# Altium footprint library Tag105 Rev20.PcbLib: 25 footprints (part 2 of 2)
Each footprint in its own frame and in the unit in brackets; x right, y up, seen from the top. Pads: shape width x height; smd on the part's side, far side on the other; paste and mask are expansions set on the pad; w line width, h text height; cw(c..) or ccw(c..) is an arc to the next point about the centre after c.
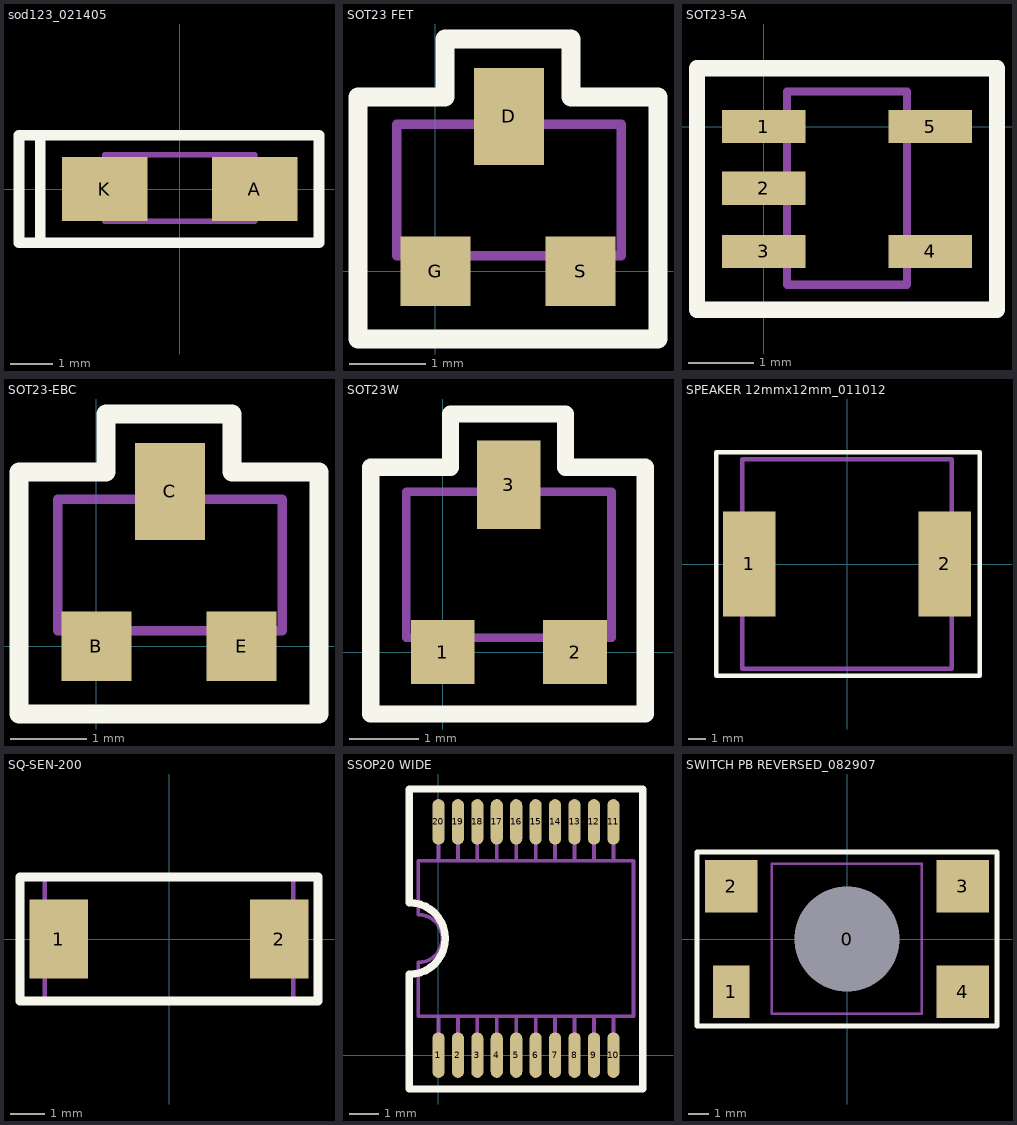
[diagram p1: the footprints below, top view; thin cyan lines are the x and y axes]

## sod123_021405 [mil]
pads (2):
  rect 80x60 smd: A(70,0) K(-70,0)
Top Overlay:
  lines w9.84: -130,-50 -130,50 ; -150,-50 40,-50 130,-50 130,50 40,50 -150,50 -150,-50
Mechanical 1:
  lines w4.92: -40,-30 -40,32 ; -70,-30 70,-30 70,32 -70,32 -70,-30
Mechanical 8:
  text ".Designator" at -20,50 h19.68

## SOT23 FET [mil]
pads (3):
  rect 36x50 smd: D(38,80)
  rect 36x36 smd: G(0,0) S(75,0)
Top Overlay:
  lines w9.84: -40,-35 -40,90 5,90 5,120 23,120 70,120 70,90 115,90 115,-35 -40,-35
Mechanical 1:
  lines w4.92: -10,8 -10,-8 10,-8 10,8 ; 30,76 30,94 46,94 46,76 ; 66,8 66,-8 84,-8 84,8 ; -20,8 -20,76 96,76 96,8 -20,8
Mechanical 8:
  text ".Designator" at 56,-17 h19.68

## SOT23-5A [mil]
pads (5):
  rect 50x20 smd: 1(0,0) 2(0,-37) 3(0,-75) 4(100,-75) 5(100,0)
Top Overlay:
  lines w9.84: -40,-110 -40,-75 -40,35 140,35 140,-110 -40,-110
Mechanical 1:
  lines w4.92: 14,-79 -8,-79 -8,-71 12,-71 14,-69 ; 14,-41 -8,-41 -8,-33 14,-33 ; 14,-3 -8,-3 -8,5 14,5 ; 86,-79 108,-79 108,-71 86,-71 ; 86,-3 108,-3 108,5 86,5 ; 14,-95 86,-95 86,21 14,21 14,-95
Mechanical 8:
  text ".Designator" at 106,-22 h19.68

## SOT23-EBC [mil]
pads (3):
  rect 36x36 smd: B(0,0) E(75,0)
  rect 36x50 smd: C(38,80)
Top Overlay:
  lines w9.84: -40,-35 -40,90 5,90 5,120 23,120 70,120 70,90 115,90 115,-35 -40,-35
Mechanical 1:
  lines w5: -10,8 -10,-8 10,-8 10,8 ; 30,76 30,94 46,94 46,76 ; 66,8 66,-8 84,-8 84,8 ; -20,8 -20,76 96,76 96,8 -20,8
Mechanical 8:
  text ".Designator" at -33,62 h19.68

## SOT23W [mil]
pads (3):
  rect 36x36 smd: 1(0,0) 2(74.8,0)
  rect 36x50 smd: 3(37.4,94.49)
Top Overlay:
  lines w9.84: -40.6,-35 -40.6,104.49 4.4,104.49 4.4,134.49 22.4,134.49 69.4,134.49 69.4,104.49 114.4,104.49 114.4,-35 -40.6,-35
Mechanical 1:
  lines w4.92: -10.6,8 -10.6,-8 9.4,-8 9.4,8 ; 29.4,90.49 29.4,108.49 45.4,108.49 45.4,90.49 ; 65.4,8 65.4,-8 83.4,-8 83.4,8 ; -20.6,8 -20.6,90.49 95.4,90.49 95.4,8 -20.6,8
Mechanical 8:
  text ".Designator" at 50,-15 h19.68

## SPEAKER 12mmx12mm_011012 [mm] "SMT"
height 3.14
pads (2):
  rect 3x6 smd: 1(-5.6,0) 2(5.6,0)
Top Overlay:
  lines w0.254: -7.5,-6.4 0,-6.4 7.6,-6.4 7.6,6.4 0,6.4 ; -7.5,6.4 0,6.4 ; -7.5,6.4 -7.5,-6.35 -7.5,6.4 ; -7.5,6.4 0,6.4 ; -7.5,6.4 0,6.4
Mechanical 1:
  lines w0.254: -6,-1 -6.65,-1 -6.65,1 -6,1 ; 0,6 -6,6 ; 6,1 6.65,1 6.65,-1 ; -6,6 6,6 6,-6 -6,-6 -6,6 ; 6.65,-1 6,-1 6.65,-1
Mechanical 8:
  text ".Designator" at 0.127,-4.572 h0.5

## SQ-SEN-200 [mm]
pads (2):
  rect 1.7x2.3 smd: 1(-3.2,0) 2(3.2,0)
Top Overlay:
  lines w0.254: -4.318,-1.8 -4.318,1.8 4.318,1.8 4.318,-1.8 -4.318,-1.8
Mechanical 1:
  lines w0.125: -3.6,-1.8 3.6,-1.8 3.6,1.8 -3.6,1.8 -3.6,-1.8
Mechanical 8:
  text ".Designator" at 1.448,0.686 h0.5

## SSOP20 WIDE [mil]
pads (20):
  oval 16x60 smd: 1(0,0) 2(25.59,0) 3(51.18,0) 4(76.77,0) 5(102.36,0) 6(127.95,0) 7(153.54,0) 8(179.13,0) 9(204.72,0) 10(230.31,0) 11(230.31,307.09) 12(204.72,307.09) 13(179.13,307.09) 14(153.54,307.09) 15(127.95,307.09) 16(102.36,307.09) 17(76.77,307.09) 18(51.18,307.09) 19(25.59,307.09) 20(0,307.09)
Top Overlay:
  lines w9.84: -38.39,106.3 -38.39,-44.61 268.7,-44.61 ; -38.39,200.79 -38.39,283.46 -38.39,350.39 268.7,350.39 268.7,271.65 268.7,-43.31
  lines w10: -38.39,106.3 ccw(c-38.39,153.54) -38.39,200.79
Mechanical 1:
  lines w4.92: 0,-7.87 0,51.18 ; 0,255.91 0,314.96 ; 25.59,-7.87 25.59,51.18 ; 25.59,255.91 25.59,314.96 ; 51.18,-7.87 51.18,51.18 ; 51.18,255.91 51.18,307 51.18,314.96 ; 76.77,-7.87 76.77,51.18 ; 76.77,255.91 76.77,314.96 ; 102.36,-7.87 102.36,51.18 ; 102.36,255.91 102.36,314.96 ; 127.95,-7.87 127.95,51.18 ; 127.95,255.91 127.95,314.96 ; 153.54,-7.87 153.54,51.18 ; 153.54,255.91 153.54,314.96 ; 179.13,-7.87 179.13,51.18 ; 179.13,255.91 179.13,314.96 ; 204.72,-7.87 204.72,51.18 ; 204.72,255.91 204.72,314.96 ; 230.31,-7.87 230.31,51.18 ; 230.31,255.91 230.31,314.96 ; -26.57,51.18 -26.57,122.05 ccw(c-26.57,153.54) -26.57,185.04 -26.57,255.91 115.16,255.91 256.89,255.91 256.89,153.54 256.89,51.18 115.16,51.18 -26.57,51.18
Mechanical 8:
  text ".Designator" at 123,96 h19.68

## SWITCH PB REVERSED_082907 [mil] "SMT"
pads (5):
  round 195 hole 200 unplated: 0(0,0)
  rect 70x100 smd: 1(-220,-100)
  rect 100x100 smd: 2(-220,100) 3(220,100) 4(220,-100)
Top Overlay:
  lines w9.84: -285,-165 -285,0 -285,165 0,165 285,165 285,0 285,-165 0,-165 -285,-165
Mechanical 1:
  circle w4.92: c0,0 r59
  circle w10: c0,0 r75
  lines w4.92: -142.61,-142.39 -142.61,142.61 142.39,142.61 142.39,-142.39 -142.61,-142.39
Mechanical 8:
  text ".Designator" at -100,-125 h19.68